# Altium footprint library WR-TBL_Pluggable Connector_5.00mm.PcbLib: 148 footprints (part 5 of 10)
Each footprint in its own frame and in the unit in brackets; x right, y up, seen from the top. Pads: shape width x height; smd on the part's side, far side on the other; paste and mask are expansions set on the pad; w line width, h text height; cw(c..) or ccw(c..) is an arc to the next point about the centre after c.
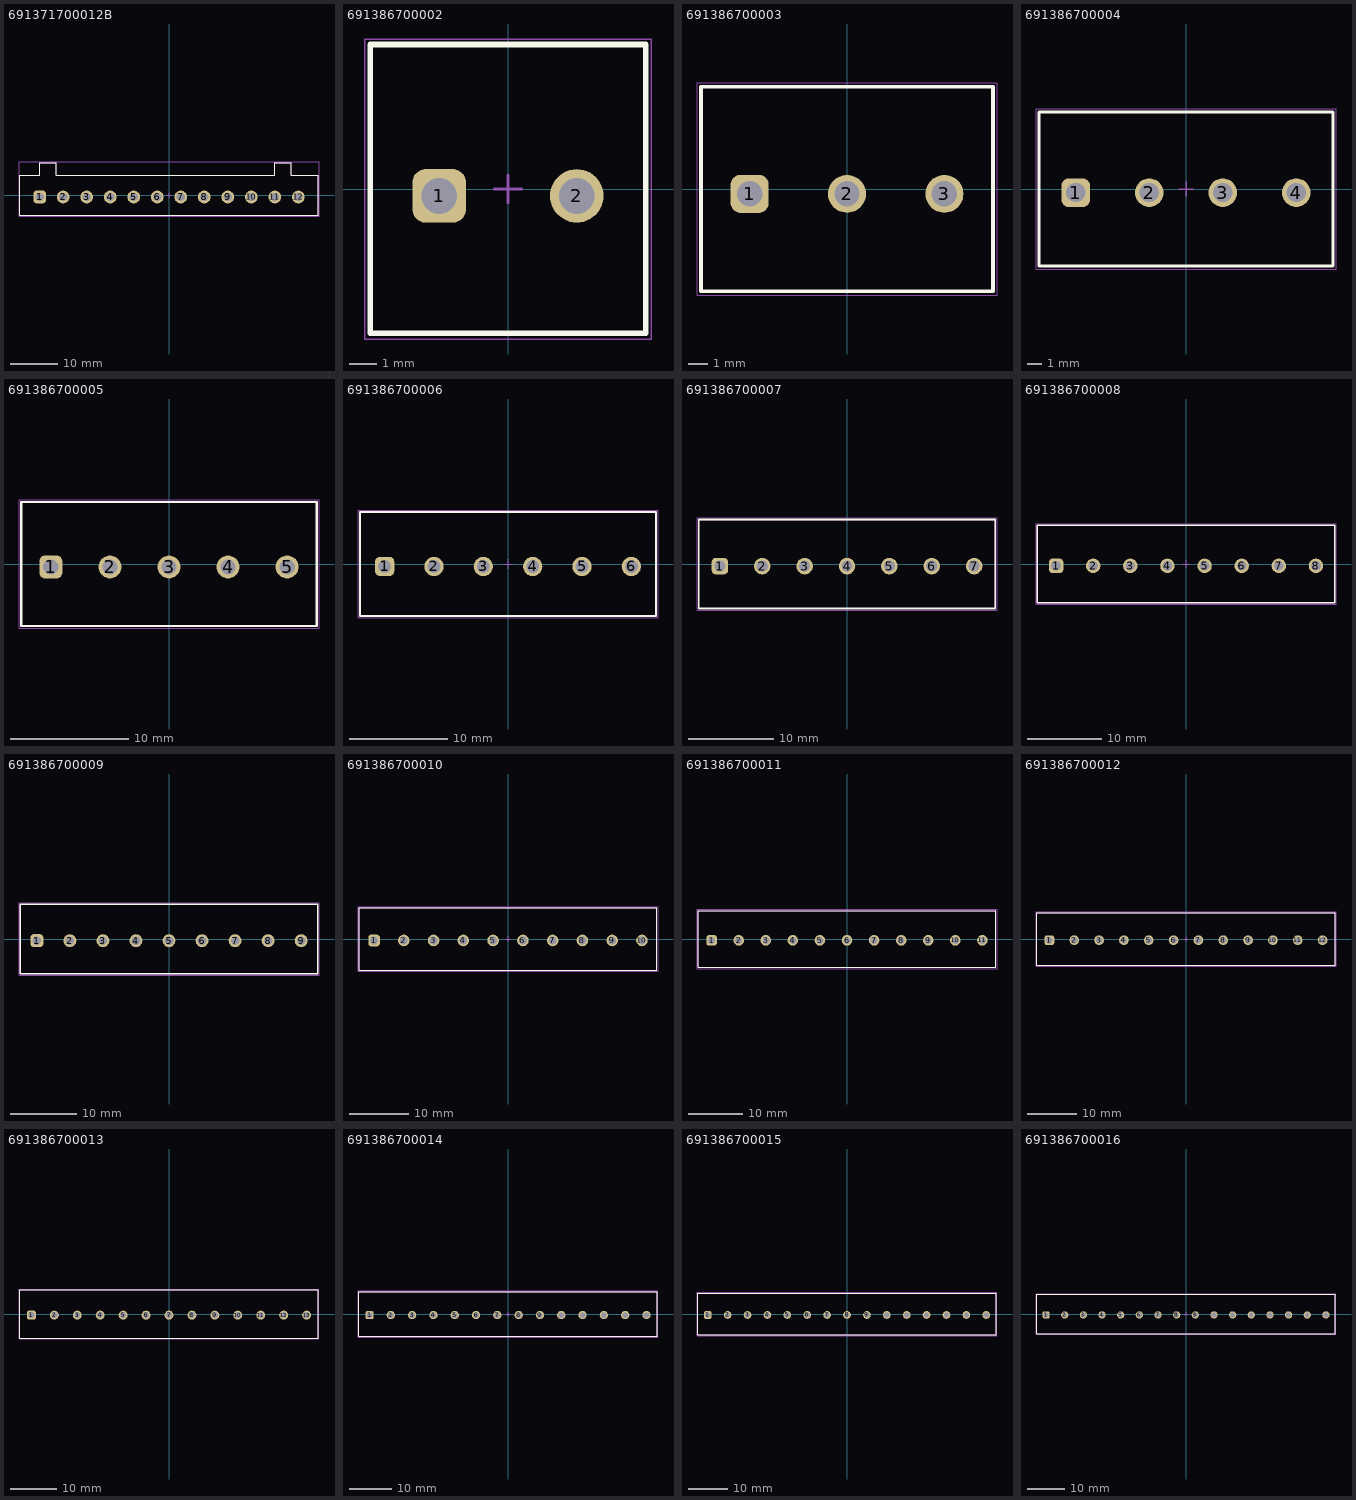
[diagram p4: the footprints below, top view; thin cyan lines are the x and y axes]

## 691371700012B [mm] "5,00mm - PCB Vertical with strong retention force between male and female housing - grey - 12p"
height 12
pads (12):
  rrect50% 2.7x2.7 hole 1.8: 1(-27.5,-0.35)
  round 2.7 hole 1.8: 2(-22.5,-0.35) 3(-17.5,-0.35) 4(-12.5,-0.35) 5(-7.5,-0.35) 6(-2.5,-0.35) 7(2.5,-0.35) 8(7.5,-0.35) 9(12.5,-0.35) 10(17.5,-0.35) 11(22.5,-0.35) 12(27.5,-0.35)
Top Overlay:
  lines w0.2: -31.7,-4.25 -31.7,4.25 -27.5,4.25 -27.5,6.95 -24,6.95 -24,4.25 22.5,4.25 22.5,6.95 26,6.95 26,4.25 31.7,4.25 31.7,-4.25 -31.7,-4.25
Top Assembly:
  lines w0.1: -31.7,-4.25 31.7,-4.25 31.7,4.25 26,4.25 26,6.95 22.5,6.95 22.5,4.25 -24,4.25 -24,6.95 -27.5,6.95 -27.5,4.25 -31.7,4.25 -31.7,-4.25
Top Designator:
  text ".Designator" at -3.647,-0.357 h1
Top 3D Body:
  lines w0.1: -31.7,-4.25 -31.7,4.25 -27.5,4.25 -27.5,6.95 -24,6.95 -24,4.25 22.5,4.25 22.5,6.95 26,6.95 26,4.25 31.7,4.25 31.7,-4.25 -31.7,-4.25
Top Courtyard:
  lines w0.05: -31.9,-4.45 31.9,-4.45 31.9,7.15 -31.9,7.15 -31.9,-4.45
Top Component Center:
  lines w0.1: -0.5,0 0.5,0 ; 0,-0.5 0,0.5
3D body "691371700012B.stp": height 12.1, standoff -3.8, extent -31.7,-4.25 31.7,6.95

## 691386700002 [mm] "5.00mm - PCB Header ( Horizontal / Vertical ), 02p"
height 10.9
pads (2):
  rrect50% 1.95x1.95 hole 1.3: 1(-2.5,-0.25)
  round 1.95 hole 1.3: 2(2.5,-0.25)
Top Overlay:
  lines w0.2: -5,-5.25 -5,5.25 5,5.25 5,-5.25 -5,-5.25
Top Assembly:
  lines w0.1: -5,-5.25 5,-5.25 5,5.25 -5,5.25 -5,-5.25
Top Designator:
  text ".Designator" at -3.647,-0.357 h1
Top 3D Body:
  lines w0.1: -5,-5.25 -5,5.25 5,5.25 5,-5.25 -5,-5.25
Top Courtyard:
  lines w0.05: -5.2,-5.45 5.2,-5.45 5.2,5.45 -5.2,5.45 -5.2,-5.45
Top Component Center:
  lines w0.1: -0.5,0 0.5,0 ; 0,-0.5 0,0.5
3D body "691386700002.stp": height 11, standoff -4, extent -5,-5.25 5,5.25

## 691386700003 [mm] "5.00mm - PCB Header ( Horizontal / Vertical ), 03p"
height 10.9
pads (3):
  rrect50% 1.95x1.95 hole 1.3: 1(-5,-0.25)
  round 1.95 hole 1.3: 2(0,-0.25) 3(5,-0.25)
Top Overlay:
  lines w0.2: -7.5,-5.25 -7.5,5.25 7.5,5.25 7.5,-5.25 -7.5,-5.25
Top Assembly:
  lines w0.1: -7.5,-5.25 7.5,-5.25 7.5,5.25 -7.5,5.25 -7.5,-5.25
Top Designator:
  text ".Designator" at -3.647,-0.357 h1
Top 3D Body:
  lines w0.1: -7.5,-5.25 -7.5,5.25 7.5,5.25 7.5,-5.25 -7.5,-5.25
Top Courtyard:
  lines w0.05: -7.7,-5.45 7.7,-5.45 7.7,5.45 -7.7,5.45 -7.7,-5.45
Top Component Center:
  lines w0.1: -0.5,0 0.5,0 ; 0,-0.5 0,0.5
3D body "691386700003.stp": height 11, standoff -4, extent -7.5,-5.25 7.5,5.25

## 691386700004 [mm] "5.00mm - PCB Header ( Horizontal / Vertical ), 04p"
height 10.9
pads (4):
  rrect50% 1.95x1.95 hole 1.3: 1(-7.5,-0.25)
  round 1.95 hole 1.3: 2(-2.5,-0.25) 3(2.5,-0.25) 4(7.5,-0.25)
Top Overlay:
  lines w0.2: -10,-5.25 10,-5.25 10,5.25 -10,5.25 -10,-5.25
Top Assembly:
  lines w0.1: -10,-5.25 -10,5.25 10,5.25 10,-5.25 -10,-5.25
Top Designator:
  text ".Designator" at -3.647,-0.357 h1
Top 3D Body:
  lines w0.1: -10,-5.25 10,-5.25 10,5.25 -10,5.25 -10,-5.25
Top Courtyard:
  lines w0.05: -10.2,-5.45 -10.2,5.45 10.2,5.45 10.2,-5.45 -10.2,-5.45
Top Component Center:
  lines w0.1: -0.5,0 0.5,0 ; 0,-0.5 0,0.5
3D body "691386700004.stp": height 11, standoff -4, extent -10,-5.25 10,5.25

## 691386700005 [mm] "5.00mm - PCB Header ( Horizontal / Vertical ), 05p"
height 10.9
pads (5):
  rrect50% 1.95x1.95 hole 1.3: 1(-10,-0.25)
  round 1.95 hole 1.3: 2(-5,-0.25) 3(0,-0.25) 4(5,-0.25) 5(10,-0.25)
Top Overlay:
  lines w0.2: -12.5,-5.25 12.5,-5.25 12.5,5.25 -12.5,5.25 -12.5,-5.25
Top Assembly:
  lines w0.1: -12.5,-5.25 -12.5,5.25 12.5,5.25 12.5,-5.25 -12.5,-5.25
Top Designator:
  text ".Designator" at -3.647,-0.357 h1
Top 3D Body:
  lines w0.1: -12.5,-5.25 12.5,-5.25 12.5,5.25 -12.5,5.25 -12.5,-5.25
Top Courtyard:
  lines w0.05: -12.7,-5.45 -12.7,5.45 12.7,5.45 12.7,-5.45 -12.7,-5.45
Top Component Center:
  lines w0.1: -0.5,0 0.5,0 ; 0,-0.5 0,0.5
3D body "691386700005.stp": height 11, standoff -4, extent -12.5,-5.25 12.5,5.25

## 691386700006 [mm] "5.00mm - PCB Header ( Horizontal / Vertical ), 06p"
height 10.9
pads (6):
  rrect50% 1.95x1.95 hole 1.3: 1(-12.5,-0.25)
  round 1.95 hole 1.3: 2(-7.5,-0.25) 3(-2.5,-0.25) 4(2.5,-0.25) 5(7.5,-0.25) 6(12.5,-0.25)
Top Overlay:
  lines w0.2: -15,-5.25 -15,5.25 15,5.25 15,-5.25 -15,-5.25
Top Assembly:
  lines w0.1: -15,-5.25 15,-5.25 15,5.25 -15,5.25 -15,-5.25
Top Designator:
  text ".Designator" at -3.647,-0.357 h1
Top 3D Body:
  lines w0.1: -15,-5.25 -15,5.25 15,5.25 15,-5.25 -15,-5.25
Top Courtyard:
  lines w0.05: -15.2,-5.45 15.2,-5.45 15.2,5.45 -15.2,5.45 -15.2,-5.45
Top Component Center:
  lines w0.1: -0.5,0 0.5,0 ; 0,-0.5 0,0.5
3D body "691386700006.stp": height 11, standoff -4, extent -15,-5.25 15,5.25

## 691386700007 [mm] "5.00mm - PCB Header ( Horizontal / Vertical ), 07p"
height 10.9
pads (7):
  rrect50% 1.95x1.95 hole 1.3: 1(-15,-0.25)
  round 1.95 hole 1.3: 2(-10,-0.25) 3(-5,-0.25) 4(0,-0.25) 5(5,-0.25) 6(10,-0.25) 7(15,-0.25)
Top Overlay:
  lines w0.2: -17.5,-5.25 -17.5,5.25 17.5,5.25 17.5,-5.25 -17.5,-5.25
Top Assembly:
  lines w0.1: -17.5,-5.25 17.5,-5.25 17.5,5.25 -17.5,5.25 -17.5,-5.25
Top Designator:
  text ".Designator" at -3.647,-0.357 h1
Top 3D Body:
  lines w0.1: -17.5,-5.25 -17.5,5.25 17.5,5.25 17.5,-5.25 -17.5,-5.25
Top Courtyard:
  lines w0.05: -17.7,-5.45 17.7,-5.45 17.7,5.45 -17.7,5.45 -17.7,-5.45
Top Component Center:
  lines w0.1: -0.5,0 0.5,0 ; 0,-0.5 0,0.5
3D body "691386700007.stp": height 11, standoff -4, extent -17.5,-5.25 17.5,5.25

## 691386700008 [mm] "5.00mm - PCB Header ( Horizontal / Vertical ), 08p"
height 10.9
pads (8):
  rrect50% 1.95x1.95 hole 1.3: 1(-17.5,-0.25)
  round 1.95 hole 1.3: 2(-12.5,-0.25) 3(-7.5,-0.25) 4(-2.5,-0.25) 5(2.5,-0.25) 6(7.5,-0.25) 7(12.5,-0.25) 8(17.5,-0.25)
Top Overlay:
  lines w0.2: -20,-5.25 -20,5.25 20,5.25 20,-5.25 -20,-5.25
Top Assembly:
  lines w0.1: -20,-5.25 20,-5.25 20,5.25 -20,5.25 -20,-5.25
Top Designator:
  text ".Designator" at -3.647,-0.357 h1
Top 3D Body:
  lines w0.1: -20,-5.25 -20,5.25 20,5.25 20,-5.25 -20,-5.25
Top Courtyard:
  lines w0.05: -20.2,-5.45 20.2,-5.45 20.2,5.45 -20.2,5.45 -20.2,-5.45
Top Component Center:
  lines w0.1: -0.5,0 0.5,0 ; 0,-0.5 0,0.5
3D body "691386700008.stp": height 11, standoff -4, extent -20,-5.25 20,5.25

## 691386700009 [mm] "5.00mm - PCB Header ( Horizontal / Vertical ), 09p"
height 10.9
pads (9):
  rrect50% 1.95x1.95 hole 1.3: 1(-20,-0.25)
  round 1.95 hole 1.3: 2(-15,-0.25) 3(-10,-0.25) 4(-5,-0.25) 5(0,-0.25) 6(5,-0.25) 7(10,-0.25) 8(15,-0.25) 9(20,-0.25)
Top Overlay:
  lines w0.2: -22.5,-5.25 22.5,-5.25 22.5,5.25 -22.5,5.25 -22.5,-5.25
Top Assembly:
  lines w0.1: -22.5,-5.25 -22.5,5.25 22.5,5.25 22.5,-5.25 -22.5,-5.25
Top Designator:
  text ".Designator" at -3.647,-0.357 h1
Top 3D Body:
  lines w0.1: -22.5,-5.25 22.5,-5.25 22.5,5.25 -22.5,5.25 -22.5,-5.25
Top Courtyard:
  lines w0.05: -22.7,-5.45 -22.7,5.45 22.7,5.45 22.7,-5.45 -22.7,-5.45
Top Component Center:
  lines w0.1: -0.5,0 0.5,0 ; 0,-0.5 0,0.5
3D body "691386700009.stp": height 11, standoff -4, extent -22.5,-5.25 22.5,5.25

## 691386700010 [mm] "5.00mm - PCB Header ( Horizontal / Vertical ), 10p"
height 10.9
pads (10):
  rrect50% 1.95x1.95 hole 1.3: 1(-22.5,-0.25)
  round 1.95 hole 1.3: 2(-17.5,-0.25) 3(-12.5,-0.25) 4(-7.5,-0.25) 5(-2.5,-0.25) 6(2.5,-0.25) 7(7.5,-0.25) 8(12.5,-0.25) 9(17.5,-0.25) 10(22.5,-0.25)
Top Overlay:
  lines w0.2: -25,-5.25 25,-5.25 25,5.25 -25,5.25 -25,-5.25
Top Assembly:
  lines w0.1: -25,-5.25 -25,5.25 25,5.25 25,-5.25 -25,-5.25
Top Designator:
  text ".Designator" at -3.647,-0.357 h1
Top 3D Body:
  lines w0.1: -25,-5.25 25,-5.25 25,5.25 -25,5.25 -25,-5.25
Top Courtyard:
  lines w0.05: -25.2,-5.45 -25.2,5.45 25.2,5.45 25.2,-5.45 -25.2,-5.45
Top Component Center:
  lines w0.1: -0.5,0 0.5,0 ; 0,-0.5 0,0.5
3D body "691386700010.stp": height 11, standoff -4, extent -25,-5.25 25,5.25

## 691386700011 [mm] "5.00mm - PCB Header ( Horizontal / Vertical ), 11p"
height 10.9
pads (11):
  rrect50% 1.95x1.95 hole 1.3: 1(-25,-0.25)
  round 1.95 hole 1.3: 2(-20,-0.25) 3(-15,-0.25) 4(-10,-0.25) 5(-5,-0.25) 6(0,-0.25) 7(5,-0.25) 8(10,-0.25) 9(15,-0.25) 10(20,-0.25) 11(25,-0.25)
Top Overlay:
  lines w0.2: -27.5,-5.25 -27.5,5.25 27.5,5.25 27.5,-5.25 -27.5,-5.25
Top Assembly:
  lines w0.1: -27.5,-5.25 27.5,-5.25 27.5,5.25 -27.5,5.25 -27.5,-5.25
Top Designator:
  text ".Designator" at -3.647,-0.357 h1
Top 3D Body:
  lines w0.1: -27.5,-5.25 -27.5,5.25 27.5,5.25 27.5,-5.25 -27.5,-5.25
Top Courtyard:
  lines w0.05: -27.7,-5.45 27.7,-5.45 27.7,5.45 -27.7,5.45 -27.7,-5.45
Top Component Center:
  lines w0.1: -0.5,0 0.5,0 ; 0,-0.5 0,0.5
3D body "691386700011.stp": height 11, standoff -4, extent -27.5,-5.25 27.5,5.25

## 691386700012 [mm] "5.00mm - PCB Header ( Horizontal / Vertical ), 12p"
height 10.9
pads (12):
  rrect50% 1.95x1.95 hole 1.3: 1(-27.5,-0.25)
  round 1.95 hole 1.3: 2(-22.5,-0.25) 3(-17.5,-0.25) 4(-12.5,-0.25) 5(-7.5,-0.25) 6(-2.5,-0.25) 7(2.5,-0.25) 8(7.5,-0.25) 9(12.5,-0.25) 10(17.5,-0.25) 11(22.5,-0.25) 12(27.5,-0.25)
Top Overlay:
  lines w0.2: -30,-5.25 30,-5.25 30,5.25 -30,5.25 -30,-5.25
Top Assembly:
  lines w0.1: -30,-5.25 -30,5.25 30,5.25 30,-5.25 -30,-5.25
Top Designator:
  text ".Designator" at -3.647,-0.357 h1
Top 3D Body:
  lines w0.1: -30,-5.25 30,-5.25 30,5.25 -30,5.25 -30,-5.25
Top Courtyard:
  lines w0.05: -30.2,-5.45 -30.2,5.45 30.2,5.45 30.2,-5.45 -30.2,-5.45
Top Component Center:
  lines w0.1: -0.5,0 0.5,0 ; 0,-0.5 0,0.5
3D body "691386700012.stp": height 11, standoff -4, extent -30,-5.25 30,5.25

## 691386700013 [mm] "5.00mm - PCB Header ( Horizontal / Vertical ), 13p"
height 10.9
pads (13):
  rrect50% 1.95x1.95 hole 1.3: 1(-30,-0.25)
  round 1.95 hole 1.3: 2(-25,-0.25) 3(-20,-0.25) 4(-15,-0.25) 5(-10,-0.25) 6(-5,-0.25) 7(0,-0.25) 8(5,-0.25) 9(10,-0.25) 10(15,-0.25) 11(20,-0.25) 12(25,-0.25) 13(30,-0.25)
Top Overlay:
  lines w0.2: -32.5,-5.25 32.5,-5.25 32.5,5.25 -32.5,5.25 -32.5,-5.25
Top Assembly:
  lines w0.1: -32.5,-5.25 -32.5,5.25 32.5,5.25 32.5,-5.25 -32.5,-5.25
Top Designator:
  text ".Designator" at -3.647,-0.357 h1
Top 3D Body:
  lines w0.1: -32.5,-5.25 32.5,-5.25 32.5,5.25 -32.5,5.25 -32.5,-5.25
Top Courtyard:
  lines w0.05: -32.7,-5.45 -32.7,5.45 32.7,5.45 32.7,-5.45 -32.7,-5.45
Top Component Center:
  lines w0.1: -0.5,0 0.5,0 ; 0,-0.5 0,0.5
3D body "691386700013.stp": height 11, standoff -4, extent -32.5,-5.25 32.5,5.25

## 691386700014 [mm] "5.00mm - PCB Header ( Horizontal / Vertical ), 14p"
height 10.9
pads (14):
  rrect50% 1.95x1.95 hole 1.3: 1(-32.5,-0.25)
  round 1.95 hole 1.3: 2(-27.5,-0.25) 3(-22.5,-0.25) 4(-17.5,-0.25) 5(-12.5,-0.25) 6(-7.5,-0.25) 7(-2.5,-0.25) 8(2.5,-0.25) 9(7.5,-0.25) 10(12.5,-0.25) 11(17.5,-0.25) 12(22.5,-0.25) 13(27.5,-0.25) 14(32.5,-0.25)
Top Overlay:
  lines w0.2: -35,-5.25 35,-5.25 35,5.25 -35,5.25 -35,-5.25
Top Assembly:
  lines w0.1: -35,-5.25 -35,5.25 35,5.25 35,-5.25 -35,-5.25
Top Designator:
  text ".Designator" at -3.647,-0.357 h1
Top 3D Body:
  lines w0.1: -35,-5.25 35,-5.25 35,5.25 -35,5.25 -35,-5.25
Top Courtyard:
  lines w0.05: -35.2,-5.45 -35.2,5.45 35.2,5.45 35.2,-5.45 -35.2,-5.45
Top Component Center:
  lines w0.1: -0.5,0 0.5,0 ; 0,-0.5 0,0.5
3D body "691386700014.stp": height 11, standoff -4, extent -35,-5.25 35,5.25

## 691386700015 [mm] "5.00mm - PCB Header ( Horizontal / Vertical ), 15p"
height 10.9
pads (15):
  rrect50% 1.95x1.95 hole 1.3: 1(-35,-0.25)
  round 1.95 hole 1.3: 2(-30,-0.25) 3(-25,-0.25) 4(-20,-0.25) 5(-15,-0.25) 6(-10,-0.25) 7(-5,-0.25) 8(0,-0.25) 9(5,-0.25) 10(10,-0.25) 11(15,-0.25) 12(20,-0.25) 13(25,-0.25) 14(30,-0.25) 15(35,-0.25)
Top Overlay:
  lines w0.2: -37.5,-5.25 -37.5,5.25 37.5,5.25 37.5,-5.25 -37.5,-5.25
Top Assembly:
  lines w0.1: -37.5,-5.25 37.5,-5.25 37.5,5.25 -37.5,5.25 -37.5,-5.25
Top Designator:
  text ".Designator" at -3.647,-0.357 h1
Top 3D Body:
  lines w0.1: -37.5,-5.25 -37.5,5.25 37.5,5.25 37.5,-5.25 -37.5,-5.25
Top Courtyard:
  lines w0.05: -37.7,-5.45 37.7,-5.45 37.7,5.45 -37.7,5.45 -37.7,-5.45
Top Component Center:
  lines w0.1: -0.5,0 0.5,0 ; 0,-0.5 0,0.5
3D body "691386700015.stp": height 11, standoff -4, extent -37.5,-5.25 37.5,5.25

## 691386700016 [mm] "5.00mm - PCB Header ( Horizontal / Vertical ), 16p"
height 10.9
pads (16):
  rrect50% 1.95x1.95 hole 1.3: 1(-37.5,-0.25)
  round 1.95 hole 1.3: 2(-32.5,-0.25) 3(-27.5,-0.25) 4(-22.5,-0.25) 5(-17.5,-0.25) 6(-12.5,-0.25) 7(-7.5,-0.25) 8(-2.5,-0.25) 9(2.5,-0.25) 10(7.5,-0.25) 11(12.5,-0.25) 12(17.5,-0.25) 13(22.5,-0.25) 14(27.5,-0.25) 15(32.5,-0.25) 16(37.5,-0.25)
Top Overlay:
  lines w0.2: -40,-5.25 40,-5.25 40,5.25 -40,5.25 -40,-5.25
Top Assembly:
  lines w0.1: -40,-5.25 -40,5.25 40,5.25 40,-5.25 -40,-5.25
Top Designator:
  text ".Designator" at -3.647,-0.357 h1
Top 3D Body:
  lines w0.1: -40,-5.25 40,-5.25 40,5.25 -40,5.25 -40,-5.25
Top Courtyard:
  lines w0.05: -40.2,-5.45 -40.2,5.45 40.2,5.45 40.2,-5.45 -40.2,-5.45
Top Component Center:
  lines w0.1: -0.5,0 0.5,0 ; 0,-0.5 0,0.5
3D body "691386700016.stp": height 11, standoff -4, extent -40,-5.25 40,5.25